# Altium schematic symbol library SCH - Interface - LTC4330.SchLib: 1 symbol
Pins are listed as number, name and electrical type; pins without a type are passive.

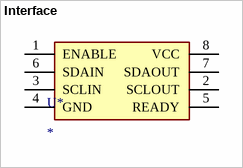
[diagram p0: symbol Interface]

## Interface
designator U*
pins: 1 ENABLE, 2 SCLOUT, 3 SCLIN, 4 GND, 5 READY, 6 SDAIN, 7 SDAOUT, 8 VCC